# Altium integrated library TestPoints.IntLib: 1 symbol
Pins are listed as number, name and electrical type; pins without a type are passive.

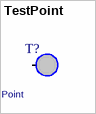
[diagram p0: symbol TestPoint]

## TestPoint
designator T?
footprint TestPoint
pins: 1